# EAGLE library part FFC30 (library dan-ffc)
FFC (flat flex cable) connector - 30 positions
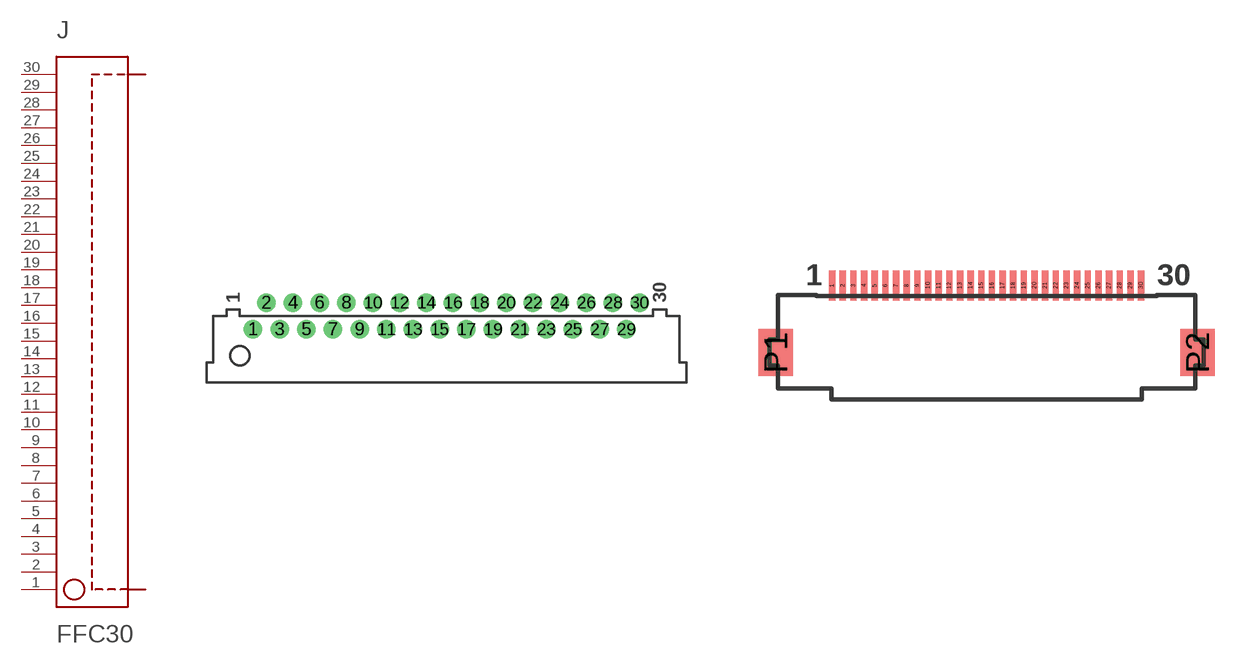
[diagram p0: symbol with the pads of SLW30R-1C7LF; footprints SLW30R-1C7LF, MOLEX-52892-3095]

Designator prefix J

## FFC30-SLW30R-1C7LF  [SLW30R-1C7LF]
1  P$1  pas
2  P$2  pas
3  P$3  pas
4  P$4  pas
5  P$5  pas
6  P$6  pas
7  P$7  pas
8  P$8  pas
9  P$9  pas
10  P$10  pas
11  P$11  pas
12  P$12  pas
13  P$13  pas
14  P$14  pas
15  P$15  pas
16  P$16  pas
17  P$17  pas
18  P$18  pas
19  P$19  pas
20  P$20  pas
21  P$21  pas
22  P$22  pas
23  P$23  pas
24  P$24  pas
25  P$25  pas
26  P$26  pas
27  P$27  pas
28  P$28  pas
29  P$29  pas
30  P$30  pas

## FFC30-52892-3095  [MOLEX-52892-3095]
Pads as for SLW30R-1C7LF

## Footprint SLW30R-1C7LF (pad centres in mm)
SLW30R-1C7LF 1mm pitch flat-flex (FFC) connector; 30 position, right-angle, zero-insertion-force
drill 0.85 pad 1.39 round: 1 -14.5,-1; 2 -13.5,1; 3 -12.5,-1; 4 -11.5,1; 5 -10.5,-1; 6 -9.5,1; 7 -8.5,-1; 8 -7.5,1; 9 -6.5,-1; 10 -5.5,1; 11 -4.5,-1; 12 -3.5,1; 13 -2.5,-1; 14 -1.5,1; 15 -0.5,-1; 16 0.5,1; 17 1.5,-1; 18 2.5,1; 19 3.5,-1; 20 4.5,1; 21 5.5,-1; 22 6.5,1; 23 7.5,-1; 24 8.5,1; 25 9.5,-1; 26 10.5,1; 27 11.5,-1; 28 12.5,1; 29 13.5,-1; 30 14.5,1

## Footprint MOLEX-52892-3095 (pad centres in mm)
Molex 52892-3095 30 conductor, 0.5mm, right-angle, surface-mount From: http://www.molex.com/pdm_docs/sd/528923095_sd.pdf
smd 0.297 x 1.4: 1 -7.25,0; 2 -6.75,0; 3 -6.25,0; 4 -5.75,0; 5 -5.25,0; 6 -4.75,0; 7 -4.25,0; 8 -3.75,0; 9 -3.25,0; 10 -2.75,0; 11 -2.25,0; 12 -1.75,0; 13 -1.25,0; 14 -0.75,0; 15 -0.25,0; 16 0.25,0; 17 0.75,0; 18 1.25,0; 19 1.75,0; 20 2.25,0; 21 2.75,0; 22 3.25,0; 23 3.75,0; 24 4.25,0; 25 4.75,0; 26 5.25,0; 27 5.75,0; 28 6.25,0; 29 6.75,0; 30 7.25,0
smd 1.6 x 2.2: P1 -9.9,-3.15; P2 9.9,-3.15